# EAGLE library part I__4076 (library ..SMD)
Quad D-type REGISTER
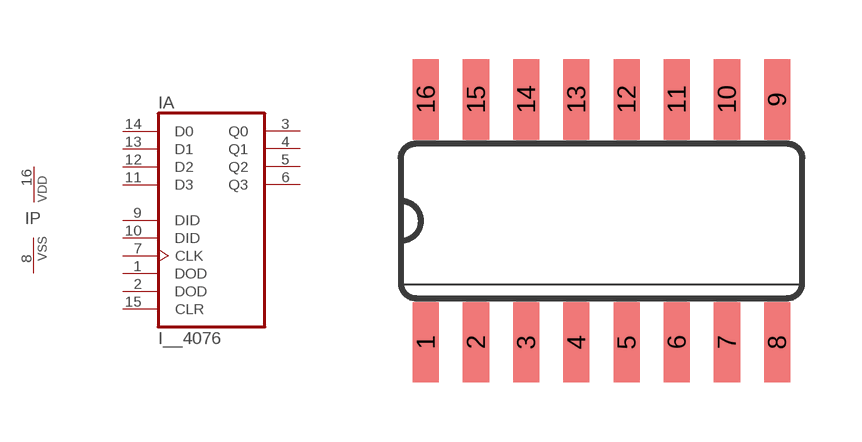
[diagram p67: symbol with the pads of SO16; footprint SO16]

Designator prefix I; gates A=4076 P=PWRN

## I__4076D  [SO16]
1  A:DOD  in
2  A:DOD  in
3  A:Q0  out
4  A:Q1  out
5  A:Q2  out
6  A:Q3  out
7  A:CLK  in
8  P:VSS  pwr
9  A:DID  in
10  A:DID  in
11  A:D3  in
12  A:D2  in
13  A:D1  in
14  A:D0  in
15  A:CLR  in
16  P:VDD  pwr

## Footprint SO16 (pad centres in mm)
Small Outline Package 16
smd 0.66 x 2.032: 1 -4.445,-3.073; 2 -3.175,-3.073; 3 -1.905,-3.073; 4 -0.635,-3.073; 5 0.635,-3.073; 6 1.905,-3.073; 7 3.175,-3.073; 8 4.445,-3.073; 9 4.445,3.073; 10 3.175,3.073; 11 1.905,3.073; 12 0.635,3.073; 13 -0.635,3.073; 14 -1.905,3.073; 15 -3.175,3.073; 16 -4.445,3.073